# Altium schematic symbol library Microfit2pin.SchLib: 1 symbol
Pins are listed as number, name and electrical type; pins without a type are passive.

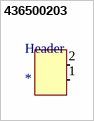
[diagram p0: symbol 436500203]

## 436500203
designator Header
Micro-Fit 3.0 Right-Angle Header, 3.00mm Pitch, Single Row, 2 Circuits, with PCB Press-fit Metal Retention Clip
pins: 1, 2